# Altium footprint library LGA-8.PcbLib: 1 footprints
Each footprint in its own frame and in the unit in brackets; x right, y up, seen from the top. Pads: shape width x height; smd on the part's side, far side on the other; paste and mask are expansions set on the pad; w line width, h text height; cw(c..) or ccw(c..) is an arc to the next point about the centre after c.
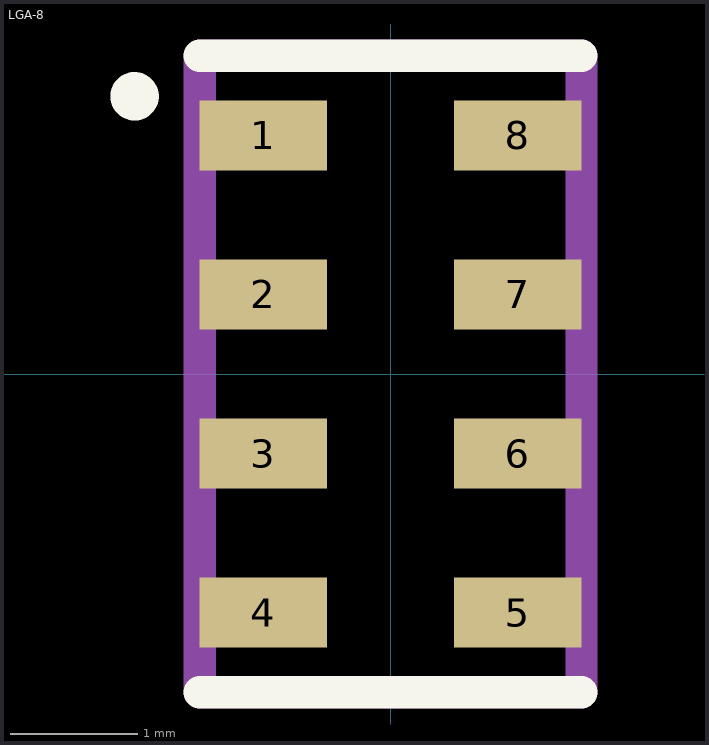
[diagram p0: the footprint, top view; thin cyan lines are the x and y axes]

## LGA-8 [mm]
pads (8):
  rect 1x0.55 smd: 1(-1,1.875) 2(-1,0.625) 3(-1,-0.625) 4(-1,-1.875) 5(1,-1.875) 6(1,-0.625) 7(1,0.625) 8(1,1.875)
L26-Silk Screen Top (Multiple PADS layers...):
  circle w0.254: c-2.012,2.182 r0.063
  lines w0.254: -1.5,-2.5 1.5,-2.5 ; -1.5,2.5 1.5,2.5
L15 (Multiple PADS layers...):
  lines w0.254: -1.5,-2.5 1.5,-2.5 1.5,2.5 -1.5,2.5 -1.5,-2.5